# Altium footprint library protection.PcbLib: 17 footprints (part 1 of 2)
Each footprint in its own frame and in the unit in brackets; x right, y up, seen from the top. Pads: shape width x height; smd on the part's side, far side on the other; paste and mask are expansions set on the pad; w line width, h text height; cw(c..) or ccw(c..) is an arc to the next point about the centre after c.
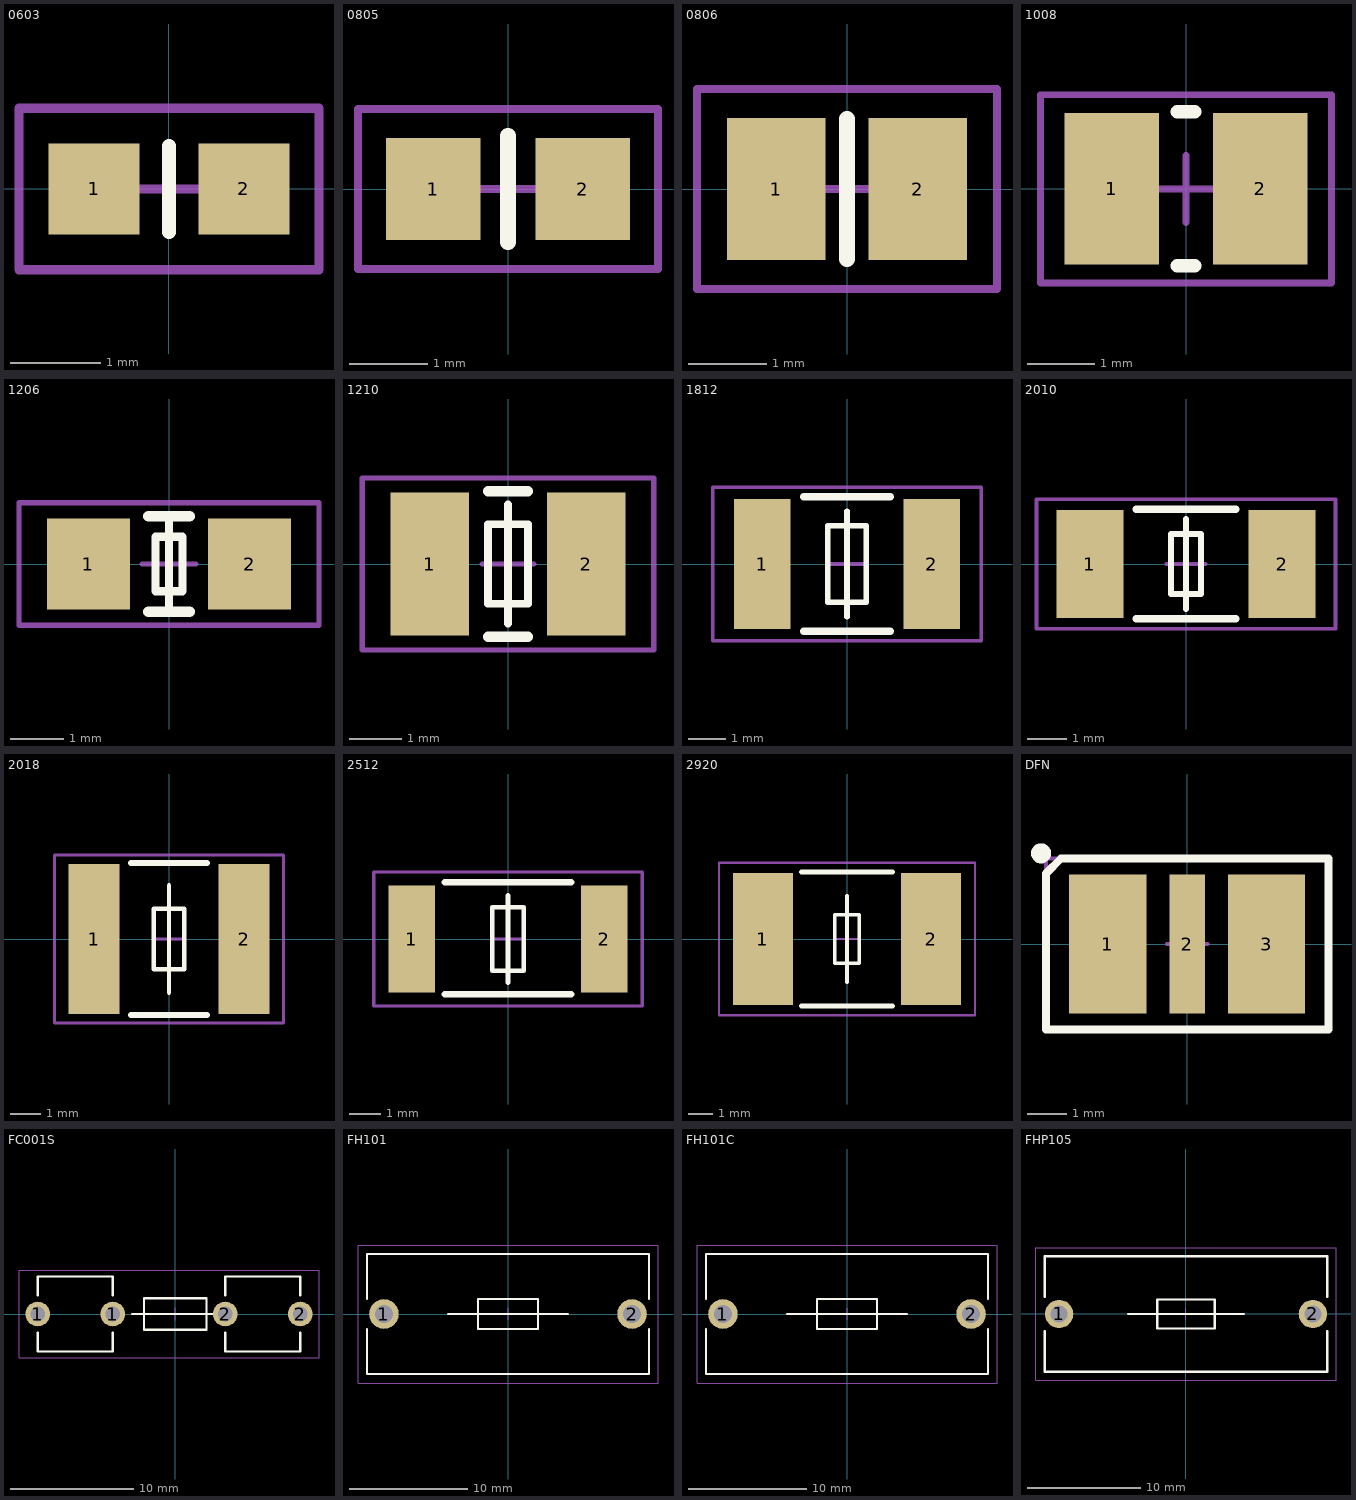
[diagram p0: the footprints below, top view; thin cyan lines are the x and y axes]

## 0603 [mm]
height 0.55
pads (2):
  rect 1x1 smd: 1(-0.825,0) 2(0.825,0)
Top Overlay:
  lines w0.15: 0,-0.475 0,0.475
Mechanical 13:
  lines w0.1: -1.651,-0.889 -1.651,0.889 1.651,0.889 1.651,-0.889 -1.651,-0.889
  text ".Designator" at -1.27,-0.508 h1
Mechanical 15:
  lines w0.05: -1.651,-0.889 1.651,-0.889 1.651,0.889 -1.651,0.889 -1.651,-0.889
  lines w0.1: -0.475,0 0.475,0 ; 0,-0.475 0,0.475
3D body: height 0.55, standoff 0, extent 0.575,-0.475 0.875,0.475
3D body: height 0.55, standoff 0, extent -0.875,-0.475 -0.575,0.475
3D body: height 0.55, standoff 0, extent -0.575,-0.475 0.575,0.475

## 0805 [mm] "Chip Resistor, 2-Leads, Body 2,00x1,25mm, IPC Medium Density"
height 0.7
pads (2):
  rect 1.2x1.3 smd: 1(-0.95,0) 2(0.95,0)
Top Overlay:
  lines w0.2: 0,-0.675 0,0.675
Mechanical 13:
  lines w0.1: -1.905,-1.016 -1.905,1.016 1.905,1.016 1.905,-1.016 -1.905,-1.016
  text ".Designator" at -1.524,-0.635 h1.3
Mechanical 15:
  lines w0.05: -1.905,-1.016 -1.905,1.016 1.905,1.016 1.905,-1.016 -1.905,-1.016
  lines w0.1: -0.5,0 0.5,0 ; 0,-0.5 0,0.5
3D body: height 0.7, standoff 0, extent -0.7,-0.675 0.7,0.675
3D body: height 0.7, standoff 0, extent -1.1,-0.675 -0.7,0.675
3D body: height 0.7, standoff 0, extent 0.7,-0.675 1.1,0.675

## 0806 [mm] "Chip Resistor, 2-Leads, Body 2,00x1,60mm, IPC Medium Density"
height 0.7
pads (2):
  rect 1.25x1.8 smd: 1(-0.9,0) 2(0.9,0)
Top Overlay:
  lines w0.2: 0,-0.889 0,0.889
Mechanical 13:
  lines w0.1: -1.905,-1.27 1.905,-1.27 1.905,1.27 -1.905,1.27 -1.905,-1.27
  text ".Designator" at -1.651,-0.635 h1.3
Mechanical 15:
  lines w0.05: -1.905,-1.27 1.905,-1.27 1.905,1.27 -1.905,1.27 -1.905,-1.27
  lines w0.1: -0.5,0 0.5,0 ; 0,-0.5 0,0.5
3D body: height 0.7, standoff 0, extent 0.575,-0.875 1.075,0.875
3D body: height 0.7, standoff 0, extent -1.075,-0.875 -0.575,0.875
3D body: height 0.7, standoff 0, extent -0.575,-0.875 0.575,0.875

## 1008 [mm] "Chip Resistor, 2-Leads, Body 2,50x2,00mm, IPC Medium Density"
height 0.55
pads (2):
  rect 1.4x2.25 smd: 1(-1.1,0) 2(1.1,0)
Top Overlay:
  lines w0.2: -0.127,-1.143 0.127,-1.143 ; -0.127,1.143 0.127,1.143
Mechanical 13:
  lines w0.1: -2.159,-1.397 -2.159,1.397 2.159,1.397 2.159,-1.397 -2.159,-1.397
  text ".Designator" at -1.524,-0.635 h1.3
Mechanical 15:
  lines w0.05: -2.159,-1.4 -2.159,1.397 2.159,1.397 2.159,-1.4 -2.159,-1.4
  lines w0.1: -0.5,0 0.5,0 ; 0,-0.5 0,0.5
3D body: height 0.55, standoff 0, extent -0.75,-1.1 0.75,1.1
3D body: height 0.55, standoff 0, extent -1.35,-1.1 -0.75,1.1
3D body: height 0.55, standoff 0, extent 0.75,-1.1 1.35,1.1

## 1206 [mm] "Chip Resistor, 2-Leads, Body 3,13x1,55mm, IPC Medium Density"
height 0.7
pads (2):
  rect 1.55x1.7 smd: 1(-1.5,0) 2(1.5,0)
Top Overlay:
  lines w0.15: 0,-0.762 0,0.762 ; -0.254,-0.508 -0.254,0.508 0.254,0.508 0.254,-0.508 -0.254,-0.508
  lines w0.2: -0.381,-0.889 0.381,-0.889 ; -0.381,0.889 0.381,0.889
Mechanical 13:
  lines w0.1: -2.794,-1.143 2.794,-1.143 2.794,1.143 -2.794,1.143 -2.794,-1.143
  text ".Designator" at -1.524,-0.635 h1.4
Mechanical 15:
  lines w0.05: -2.794,-1.143 2.794,-1.143 2.794,1.143 -2.794,1.143 -2.794,-1.143
  lines w0.1: -0.5,0 0.5,0 ; 0,-0.5 0,0.5
3D body: height 0.7, standoff 0, extent 1.125,-0.825 1.625,0.825
3D body: height 0.7, standoff 0, extent -1.625,-0.825 -1.125,0.825
3D body: height 0.7, standoff 0, extent -1.125,-0.825 1.125,0.825

## 1210 [mm] "Chip Resistor, 2-Leads, Body 3,20x2,50mm, IPC Medium Density"
height 0.7
pads (2):
  rect 1.5x2.75 smd: 1(-1.5,0) 2(1.5,0)
Top Overlay:
  lines w0.15: 0,-1.143 0,1.143 ; -0.381,-0.762 -0.381,0.762 0.381,0.762 0.381,-0.762 -0.381,-0.762
  lines w0.2: -0.381,-1.397 0.381,-1.397 ; -0.381,1.397 0.381,1.397
Mechanical 13:
  lines w0.1: -2.794,-1.651 2.794,-1.651 2.794,1.651 -2.794,1.651 -2.794,-1.651
  text ".Designator" at -1.651,-0.635 h1.4
Mechanical 15:
  lines w0.05: -2.794,-1.65 2.794,-1.65 2.794,1.65 -2.794,1.65 -2.794,-1.65
  lines w0.1: -0.5,0 0.5,0 ; 0,-0.5 0,0.5
3D body: height 0.7, standoff 0, extent 1.2,-1.35 1.7,1.35
3D body: height 0.7, standoff 0, extent -1.7,-1.35 -1.2,1.35
3D body: height 0.7, standoff 0, extent -1.2,-1.35 1.2,1.35

## 1812 [mm] "Chip Resistor, 2-Leads, Body 4,50x3,20mm, IPC Medium Density"
height 0.7
pads (2):
  rect 1.5x3.45 smd: 1(-2.25,0) 2(2.25,0)
Top Overlay:
  lines w0.15: 0,-1.397 0,1.397 ; -0.508,-1.016 0.508,-1.016 0.508,1.016 -0.508,1.016 -0.508,-1.016
  lines w0.2: -1.143,-1.778 1.143,-1.778 ; -1.143,1.778 1.143,1.778
Mechanical 13:
  lines w0.1: -3.556,-2.032 3.556,-2.032 3.556,2.032 -3.556,2.032 -3.556,-2.032
  text ".Designator" at -2.286,-0.889 h2
Mechanical 15:
  lines w0.05: -3.556,-2.032 3.556,-2.032 3.556,2.032 -3.556,2.032 -3.556,-2.032
  lines w0.1: -0.5,0 0.5,0 ; 0,-0.5 0,0.5
3D body: height 0.7, standoff 0, extent 1.85,-1.7 2.35,1.7
3D body: height 0.7, standoff 0, extent -2.35,-1.7 -1.85,1.7
3D body: height 0.7, standoff 0, extent -1.85,-1.7 1.85,1.7

## 2010 [mm] "Chip Resistor, 2-Leads, Body 5,00x2,50mm, IPC Medium Density"
height 0.7
pads (2):
  rect 1.7x2.75 smd: 1(-2.45,0) 2(2.45,0)
Top Overlay:
  lines w0.15: 0,-1.143 0,1.143 ; -0.381,-0.762 0.381,-0.762 0.381,0.762 -0.381,0.762 -0.381,-0.762
  lines w0.2: -1.27,-1.397 1.27,-1.397 ; -1.27,1.397 1.27,1.397
Mechanical 13:
  lines w0.1: -3.81,-1.651 3.81,-1.651 3.81,1.651 -3.81,1.651 -3.81,-1.651
  text ".Designator" at -2.413,-0.889 h2
Mechanical 15:
  lines w0.05: -3.81,-1.65 3.81,-1.65 3.81,1.65 -3.81,1.65 -3.81,-1.65
  lines w0.1: -0.5,0 0.5,0 ; 0,-0.5 0,0.5
3D body: height 0.7, standoff 0, extent 2,-1.35 2.6,1.35
3D body: height 0.7, standoff 0, extent -2.6,-1.35 -2,1.35
3D body: height 0.7, standoff 0, extent -2,-1.35 2,1.35

## 2018 [mm] "Chip Resistor, 2-Leads, Body 5,10x4,65mm, IPC Medium Density"
height 1.25
pads (2):
  rect 1.7x5 smd: 1(-2.5,0) 2(2.5,0)
Top Overlay:
  lines w0.15: 0,-1.8 0,1.8 ; -0.508,-1.016 -0.508,1.016 0.508,1.016 0.508,-1.016 -0.508,-1.016
  lines w0.2: -1.27,-2.54 1.27,-2.54 ; -1.27,2.54 1.27,2.54
Mechanical 13:
  lines w0.1: -3.81,-2.794 -3.81,2.794 3.81,2.794 3.81,-2.794 -3.81,-2.794
  text ".Designator" at -2.286,-1.016 h2
Mechanical 15:
  lines w0.05: -3.81,-2.794 -3.81,2.794 3.81,2.794 3.81,-2.794 -3.81,-2.794
  lines w0.1: -0.5,0 0.5,0 ; 0,-0.5 0,0.5
3D body: height 1.25, standoff 0, extent -2.2,-2.5 2.2,2.5
3D body: height 1.25, standoff 0, extent -2.75,-2.5 -2.2,2.5
3D body: height 1.25, standoff 0, extent 2.2,-2.5 2.75,2.5

## 2512 [mm] "Chip Resistor, 2-Leads, Body 6,40x3,20mm, IPC Medium Density"
height 0.8
pads (2):
  rect 1.5x3.45 smd: 1(-3.1,0) 2(3.1,0)
Top Overlay:
  lines w0.15: 0,-1.397 0,1.397 ; -0.508,-1.016 0.508,-1.016 0.508,1.016 -0.508,1.016 -0.508,-1.016
  lines w0.2: -2.032,-1.778 2.032,-1.778 ; -2.032,1.822 2.032,1.822
Mechanical 13:
  lines w0.1: -4.318,-2.159 4.318,-2.159 4.318,2.159 -4.318,2.159 -4.318,-2.159
  text ".Designator" at -2.286,-1.016 h2
Mechanical 15:
  lines w0.05: -4.318,-2.159 4.318,-2.159 4.318,2.159 -4.318,2.159 -4.318,-2.159
  lines w0.1: -0.5,0 0.5,0 ; 0,-0.5 0,0.5
3D body: height 0.8, standoff 0, extent 2.7,-1.7 3.3,1.7
3D body: height 0.8, standoff 0, extent -3.3,-1.7 -2.7,1.7
3D body: height 0.8, standoff 0, extent -2.7,-1.7 2.7,1.7

## 2920 [mm] "Chip Resistor, 2-Leads, Body 7,40x5,15mm, IPC Medium Density"
height 1.6
pads (2):
  rect 2.5x5.5 smd: 1(-3.5,0) 2(3.5,0)
Top Overlay:
  lines w0.15: 0,-1.8 0,1.8 ; -0.508,-1.016 0.508,-1.016 0.508,1.016 -0.508,1.016 -0.508,-1.016
  lines w0.2: -1.905,-2.794 1.905,-2.794 ; -1.905,2.794 1.905,2.794
Mechanical 13:
  lines w0.1: -5.334,-3.175 -5.334,3.175 5.334,3.175 5.334,-3.175 -5.334,-3.175
  text ".Designator" at -2.286,-1.016 h2
Mechanical 15:
  lines w0.05: -5.334,-3.175 -5.334,3.175 5.334,3.175 5.334,-3.175 -5.334,-3.175
  lines w0.1: -0.5,0 0.5,0 ; 0,-0.5 0,0.5
3D body: height 1.6, standoff 0, extent -3.35,-2.75 3.35,2.75
3D body: height 1.6, standoff 0, extent -4,-2.75 -3.35,2.75
3D body: height 1.6, standoff 0, extent 3.35,-2.75 4,2.75

## DFN [mm] "Chip, 3-Leads, Body 4,50x3,20mm, IPC Medium Density"
height 0.7
pads (3):
  rect 1.95x3.5 smd: 1(-2,0) 3(2,0)
  rect 0.9x3.5 smd: 2(0,0)
Top Overlay:
  circle w0.254: c-3.683,2.286 r0.127
  lines w0.2: -3.556,-2.159 3.556,-2.159 3.556,2.159 -3.175,2.159 -3.556,1.778 -3.556,-2.159
Mechanical 13:
  lines w0.1: -3.556,-2.159 3.556,-2.159 3.556,2.159 -3.556,2.159 -3.556,-2.159
  text ".Designator" at -2.413,-1.016 h2
Mechanical 15:
  lines w0.05: -3.556,-2.159 3.556,-2.159 3.556,2.159 -3.556,2.159 -3.556,-2.159
  lines w0.1: -0.508,0 0.508,0 ; 0,-0.508 0,0.508
3D body: height 0.7, standoff 0.05, extent -3.302,-2.032 3.302,2.032

## FC001S [mm] "Chip Resistor, 2-Leads, Body 7,40x5,15mm, IPC Medium Density"
height 1.6
pads (4):
  round 2 hole 1.2: 1(-11.176,0) 1(-5.08,0) 2(4.064,0) 2(10.16,0)
Top Overlay:
  lines w0.2: -11.176,-1.524 -11.176,-3.048 -5.08,-3.048 -5.08,-1.524 ; -11.176,1.524 -11.176,3.048 -5.08,3.048 -5.08,1.524 ; -3.5,0 -2.54,0 2.54,0 3.5,0 ; 4.064,-1.524 4.064,-3.048 10.16,-3.048 10.16,-1.524 ; 4.064,1.524 4.064,3.048 10.16,3.048 10.16,1.524 ; -2.54,-1.27 -2.54,1.27 2.54,1.27 2.54,-1.27 -2.54,-1.27
Mechanical 13:
  lines w0.1: -12.7,-3.556 -12.7,3.556 11.684,3.556 11.684,-3.556 -12.7,-3.556
  text ".Designator" at -2.159,-1.016 h2
Mechanical 15:
  lines w0.05: -12.7,-3.556 11.684,-3.556 11.684,3.556 -12.7,3.556 -12.7,-3.556
  lines w0.1: -0.5,0 0.5,0 ; 0,-0.5 0,0.5
3D body: height 8, standoff 0.1, extent 4.064,-3.048 10.16,3.048
3D body: height 8, standoff 0.1, extent -11.176,-3.048 -5.08,3.048
3D body: height 7.04, standoff 1.96, extent -10.541,-2.54 9.525,2.54

## FH101 [mm] "Chip Resistor, 2-Leads, Body 7,40x5,15mm, IPC Medium Density"
height 1.6
pads (2):
  round 2.5 hole 1.5: 1(-10.5,0) 2(10.5,0)
Top Overlay:
  lines w0.2: -11.938,-1.27 -11.938,-5.08 11.938,-5.08 11.938,-1.27 ; -11.938,1.27 -11.938,5.08 11.938,5.08 11.938,1.27 ; -5.08,0 -2.54,0 2.54,0 5.08,0 ; -2.54,-1.27 2.54,-1.27 2.54,1.27 -2.54,1.27 -2.54,-1.27
Mechanical 13:
  lines w0.1: -12.7,-5.842 12.7,-5.842 12.7,5.842 -12.7,5.842 -12.7,-5.842
  text ".Designator" at -2.286,-1.016 h2
Mechanical 15:
  lines w0.05: -12.7,-5.842 -12.7,5.842 12.7,5.842 12.7,-5.842 -12.7,-5.842
  lines w0.1: -0.5,0 0.5,0 ; 0,-0.5 0,0.5
3D body: height 3.5, standoff 0.1, extent -5.842,-5.08 5.842,5.08
3D body: height 11, standoff 0.1, extent -11.938,-5.08 -5.842,5.08
3D body: height 11, standoff 0.1, extent 5.842,-5.08 11.938,5.08

## FH101C [mm] "Chip Resistor, 2-Leads, Body 7,40x5,15mm, IPC Medium Density"
height 1.6
pads (2):
  round 2.5 hole 1.5: 1(-10.5,0) 2(10.5,0)
Top Overlay:
  lines w0.2: -11.938,-1.27 -11.938,-5.08 11.938,-5.08 11.938,-1.27 ; -11.938,1.27 -11.938,5.08 11.938,5.08 11.938,1.27 ; -5.08,0 -2.54,0 2.54,0 5.08,0 ; -2.54,-1.27 2.54,-1.27 2.54,1.27 -2.54,1.27 -2.54,-1.27
Mechanical 13:
  lines w0.1: -12.7,-5.842 -12.7,5.842 12.7,5.842 12.7,-5.842 -12.7,-5.842
  text ".Designator" at -2.286,-1.016 h2
Mechanical 15:
  lines w0.05: -12.7,-5.842 -12.7,5.842 12.7,5.842 12.7,-5.842 -12.7,-5.842
  lines w0.1: -0.5,0 0.5,0 ; 0,-0.5 0,0.5
3D body: height 13.5, standoff 0.1, extent -11.938,-5.08 11.938,5.08

## FHP105 [mm] "Chip Resistor, 2-Leads, Body 7,40x5,15mm, IPC Medium Density"
height 1.6
pads (2):
  round 2.5 hole 1.5: 1(-11.176,0) 2(11.176,0)
Top Overlay:
  lines w0.2: -12.446,-1.524 -12.446,-5.08 12.446,-5.08 12.446,-1.524 ; -12.446,1.524 -12.446,5.08 12.446,5.08 12.446,1.524 ; -5.08,0 -2.54,0 2.54,0 5.08,0 ; -2.54,-1.27 2.54,-1.27 2.54,1.27 -2.54,1.27 -2.54,-1.27
Mechanical 13:
  lines w0.1: -13.208,-5.842 -13.208,5.842 13.208,5.842 13.208,-5.842 -13.208,-5.842
  text ".Designator" at -2.286,-1.016 h2
Mechanical 15:
  lines w0.05: -13.208,-5.842 -13.208,5.842 13.208,5.842 13.208,-5.842 -13.208,-5.842
  lines w0.1: -0.5,0 0.5,0 ; 0,-0.5 0,0.5
3D body: height 11, standoff 0.1, extent -12.446,-5.08 12.446,5.08